# Altium schematic symbol library ERA-6AEB472V.SchLib: 1 symbol
Pins are listed as number, name and electrical type; pins without a type are passive.

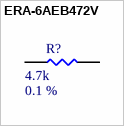
[diagram p0: symbol ERA-6AEB472V]

## ERA-6AEB472V
designator R?  Tolerance: 0.1 %  Resistance: 4.7k  (hidden comment: ERA-6AEB472V)
Thin Film Resistors - SMD 0805 1/8W 4.7Kohms; MFR: Panasonic; Qualifications: AEC-Q200; ComponentLink1Description: Datasheet; ComponentLink1URL: https://www.mouser.ca/datasheet/2/315/AOA0000C307-1149632.pdf; PN: ERA-6AEB472V; Footprint: RES0805; Power Rating: 1/8W; Package: 0805; Supplier 1: Digi-Key; Supplier Part Number 1: P4.7KDACT-ND
footprint RES0805 (Generic 0805 PCB Footprint)
pins: 1, 2